# Altium schematic symbol library 06033A100KAT2A.SchLib: 1 symbol
Pins are listed as number, name and electrical type; pins without a type are passive.

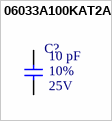
[diagram p0: symbol 06033A100KAT2A]

## 06033A100KAT2A
designator C?  Rated Voltage: 25V  Tolerance: 10%  Capacitence: 10 pF  (hidden comment: 06033A100KAT2A)
CAP CER 10PF 25V C0G/NP0 0603; MFR: AVX Corporation; Temperature Coefficient: C0G, NP0; PN: 06033A100KAT2A; ComponentLink1Description: Datasheet; ComponentLink1URL: https://datasheets.avx.com/C0GNP0-Dielectric.pdf; Package: 0603; Footprint: C0603; Supplier 1: Digi-Key; Supplier Part Number 1: 478-06033A100KAT2ACT-ND
footprint C0603 (Generic C0603 Footprint)
pins: 1, 2